# Altium footprint library PcbLib1.PcbLib: 21 footprints (part 1 of 2)
Each footprint in its own frame and in the unit in brackets; x right, y up, seen from the top. Pads: shape width x height; smd on the part's side, far side on the other; paste and mask are expansions set on the pad; w line width, h text height; cw(c..) or ccw(c..) is an arc to the next point about the centre after c.
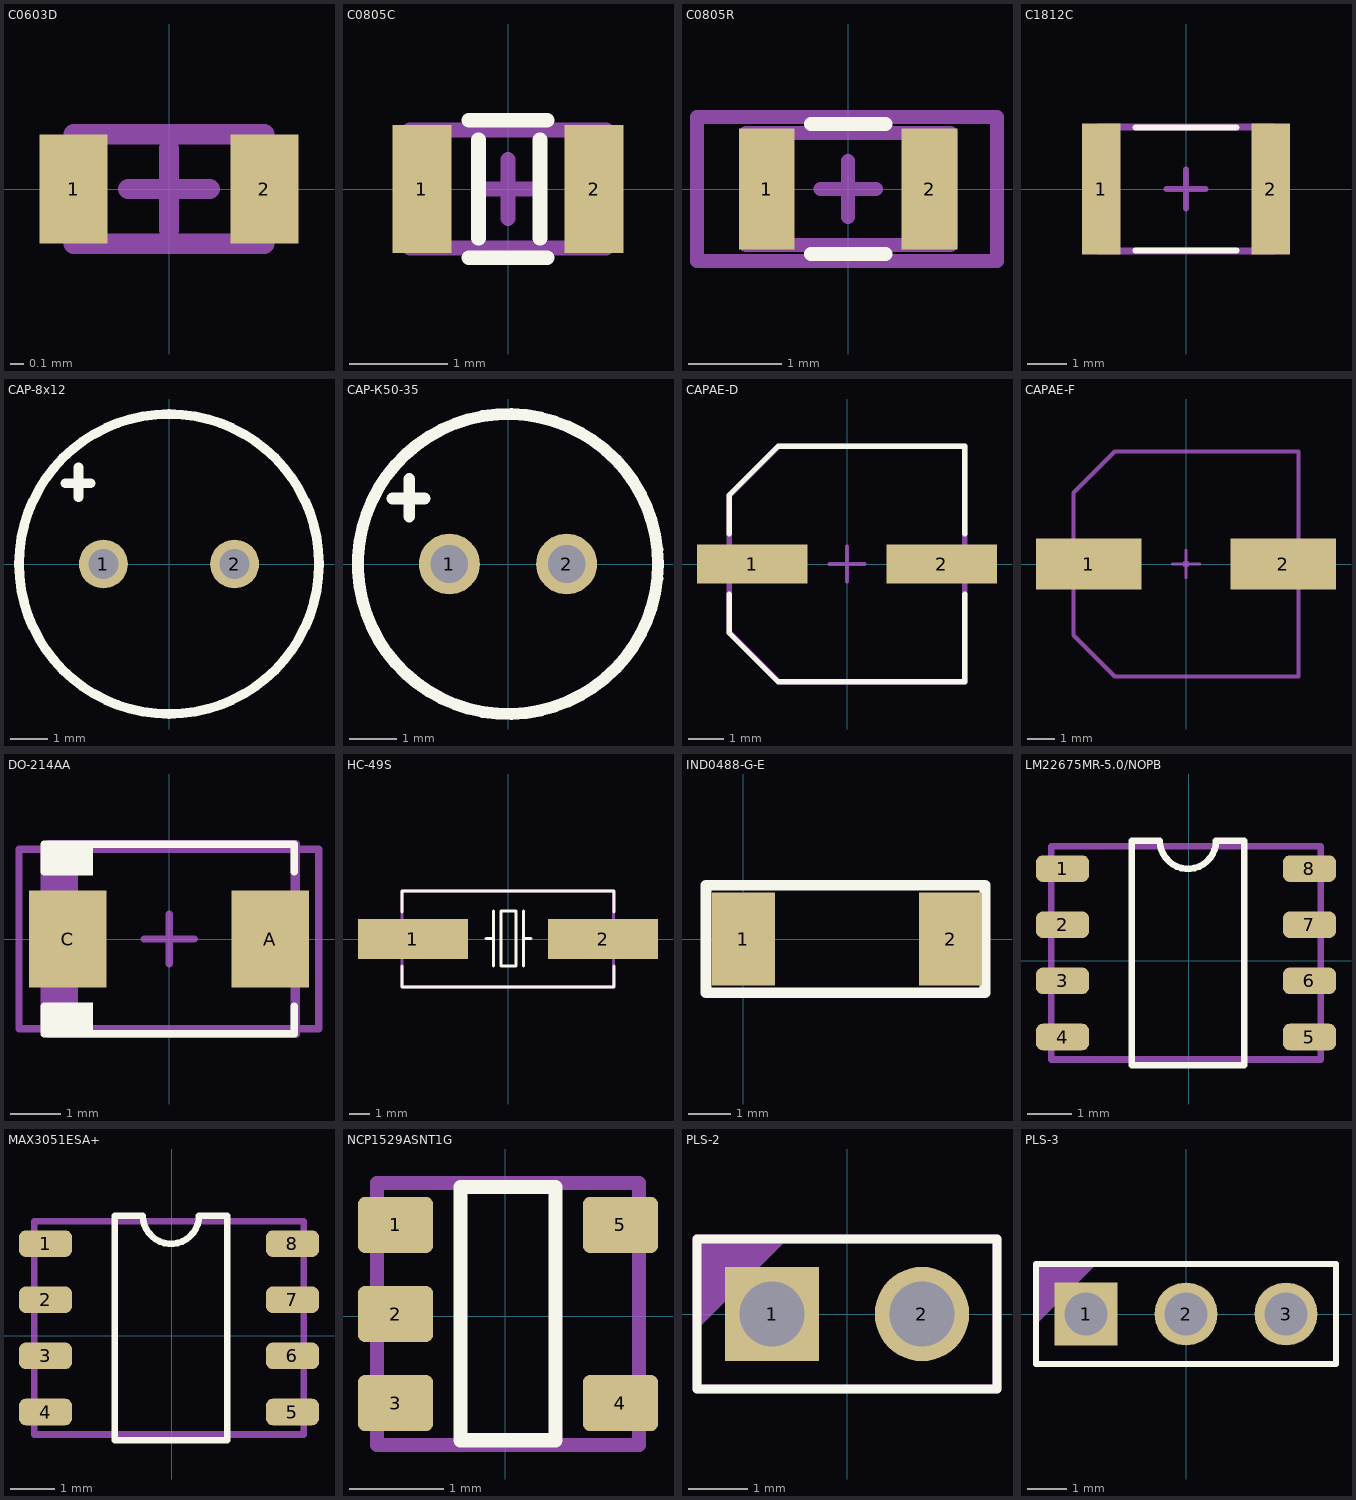
[diagram p0: the footprints below, top view; thin cyan lines are the x and y axes]

## C0603D [mm]
height 0.45
pads (2):
  rect 0.5x0.8 smd: 1(-0.7,0) 2(0.7,0)
Top Overlay:
  text "." at 1.2,0.8 h0.1
Top Courtyard:
  lines w0.15: -0.3,0 0.3,0 ; 0,-0.3 0,0.3 ; -0.7,-0.4 -0.7,0.4 0.7,0.4 0.7,-0.4 -0.7,-0.4
3D body: height 0.45, standoff 0, extent -0.5,-0.41 0.5,0.41
3D body: height 0.45, standoff 0, extent 0.5,-0.41 0.7,0.41
3D body: height 0.45, standoff 0, extent -0.7,-0.41 -0.5,0.41

## C0805C [mm]
height 1
pads (2):
  rect 0.6x1.3 smd: 1(-0.875,0) 2(0.875,0)
Top Overlay:
  lines w0.15: -0.4,-0.7 0.4,-0.7 ; -0.4,0.7 0.4,0.7 ; -0.3,-0.5 -0.3,0.5 ; 0.325,-0.5 0.325,0.5
Top Courtyard:
  lines w0.15: -0.3,0 0.3,0 ; 0,-0.3 0,0.3 ; -1,-0.6 -1,0.6 1,0.6 1,-0.6 -1,-0.6
3D body: height 0.8, standoff 0, extent 0.4,-0.6 1,0.6
3D body: height 0.8, standoff 0, extent -0.4,-0.6 0.4,0.6
3D body: height 0.8, standoff 0, extent -1,-0.6 -0.4,0.6

## C0805R [mm]
height 1
pads (2):
  rect 0.6x1.3 smd: 1(-0.875,0) 2(0.875,0)
Top Overlay:
  lines w0.15: -0.4,-0.7 0.4,-0.7 ; -0.4,0.7 0.4,0.7
Top Courtyard:
  lines w0.15: -0.3,0 0.3,0 ; 0,-0.3 0,0.3 ; -1.1,-0.6 1.1,-0.6 1.1,0.6 -1.1,0.6 -1.1,-0.6
Mechanical 29:
  lines w0.15: -1.625,-0.775 -1.625,0.775 1.6,0.775 1.6,-0.775 -1.625,-0.775
  text ".Designator" at -1.651,-0.381 h1
3D body: height 0.5, standoff 0, extent 0.4,-0.6 1,0.6
3D body: height 0.5, standoff 0, extent -0.4,-0.6 0.4,0.6
3D body: height 0.5, standoff 0, extent -1,-0.6 -0.4,0.6

## C1812C [mm]
height 1
pads (2):
  rect 1x3.35 smd: 1(-2.175,0) 2(2.175,0)
Top Overlay:
  lines w0.15: -1.3,-1.575 1.3,-1.575 ; -1.3,1.575 1.3,1.575
Top Courtyard:
  lines w0.15: -0.5,0 0.5,0 ; 0,-0.5 0,0.5 ; -2.3,-1.575 2.3,-1.575 2.3,1.575 -2.3,1.575 -2.3,-1.575
Mechanical 29:
  lines w0.15: -2.25,-1.6 2.25,-1.6 2.25,1.6 -2.25,1.6 -2.25,-1.6
  text ".Designator" at -2,-0.4 h1
3D body "C1812C.step": height 1, standoff 0, extent -2.25,-1.6 2.25,1.6

## CAP-8x12 [mm]
pads (2):
  round 1.3 hole 0.8: 1(-1.75,0) 2(1.75,0)
Top Overlay:
  circle w0.254: c0,0 r4
  lines w0.254: -2.769,2.159 -2.085,2.159 ; -2.413,1.778 -2.413,2.576

## CAP-К50-35 [mm]
pads (2):
  round 1.3 hole 0.8: 1(-1.25,0) 2(1.25,0)
Top Overlay:
  circle w0.254: c0,0 r3.2
  lines w0.254: -2.462,1.397 -1.778,1.397 ; -2.106,1.016 -2.106,1.814

## CAPAE-D [mm] "Aluminum Electrolytic Capacitor, Body 6,60x6,60x5,80mm, IPC High Density"
height 5.8
pads (2):
  rect 3.1x1.1 smd: 1(-2.65,0) 2(2.65,0)
Top Overlay:
  lines w0.15: -3.3,-0.85 -3.3,-1.925 -1.925,-3.3 3.3,-3.3 3.3,-0.85 ; -3.3,0.85 -3.3,1.925 -1.925,3.3 3.3,3.3 3.3,0.85
Top Courtyard:
  lines w0.1: -0.5,0 0.5,0 ; 0,-0.5 0,0.5
  lines w0.15: -3.3,-1.9 -1.9,-3.3 3.3,-3.3 3.3,-0.5 3.3,0.5 3.3,3.3 -1.9,3.3 -3.3,1.9 -3.3,0.5 -3.3,-0.5 -3.3,-1.9
3D body "CAPAE-D.step": height 5.8, standoff -0.5, extent -3.9,-3.3 3.9,3.3

## CAPAE-F [mm] "Aluminum Electrolytic Capacitor, Body 8,30x8,30x10,20mm, IPC High Density"
height 10.2
pads (2):
  rect 3.85x1.85 smd: 1(-3.55,0) 2(3.55,0)
Top Courtyard:
  lines w0.05: -0.075,-0.075 -0.075,0.075 0.075,0.075 0.075,-0.075 -0.075,-0.075
  lines w0.1: -0.5,0 0.5,0 ; 0,-0.5 0,0.5
  lines w0.15: -4.1,-2.6 -2.6,-4.1 4.1,-4.1 4.1,-0.9 4.1,0.9 4.1,4.1 -2.6,4.1 -4.1,2.6 -4.1,0.9 -4.1,-0.9 -4.1,-2.6
3D body "CAPAE10083X102L.step": height 10.2, standoff 0, extent -5,-4.15 5,4.15

## DO-214AA [mm] "Molded Diode, 2-Leads, Body 5,00x3,70mm, IPC High Density"
height 2.1
pads (2):
  rect 1.55x1.95 smd: A(2.025,0) C(-2.025,0)
Top Overlay:
  rectangle: -2.5,-1.9 -1.524,-1.27
  rectangle: -2.5,1.27 -1.524,1.9
  lines w0.15: -2.5,-1.35 -2.5,-1.9 2.5,-1.9 2.5,-1.35 ; -2.5,1.35 -2.5,1.9 2.5,1.9 2.5,1.35
  text "." at -3.1,1.55 h0.1
Top Courtyard:
  lines w0.15: -0.5,0 0.5,0 ; 0,-0.5 0,0.5 ; -3.004,-1.8 2.991,-1.8 2.991,1.8 -3.004,1.8 -3.004,-1.8
Mechanical 13:
  rectangle: -2.5,-1.85 -1.827,1.85
  lines w0.15: -2.5,-1.85 2.5,-1.85 2.5,1.85 -2.5,1.85 -2.5,-1.85
Mechanical 29:
  lines w0.15: -1.778,-1.905 -1.905,-1.905 -1.905,1.905 -1.778,1.905 ; -2.413,-1.905 2.54,-1.905 2.54,1.905 -2.413,1.905 -2.413,-1.905
3D body "DO-214AA.step": height 2.3, standoff 0, extent -2.97,-1.8 2.97,1.8

## HC-49S [mm]
pads (2):
  rect 5.5x2 smd: 1(-4.75,0) 2(4.75,0)
Top Overlay:
  lines w0.15: -5.3,-1.35 -5.3,-2.4 5.3,-2.4 5.3,-1.35 ; -5.3,1.35 -5.3,2.4 5.3,2.4 5.3,1.35 ; -1.1,0.025 -0.725,0.025 ; -0.725,-1.35 -0.725,0.025 ; -0.725,1.4 -0.725,0.025 ; 0.775,-1.35 0.775,0.025 ; 0.775,1.4 0.775,0.025 ; 1.15,0.025 0.775,0.025 ; -0.35,-1.35 -0.35,0.025 -0.35,1.4 0.025,1.4 0.4,1.4 0.4,0.025 0.4,-1.35 0.025,-1.35 -0.35,-1.35
Mechanical 29:
  lines w0.15: -5.3,-2.4 5.275,-2.4 5.275,2.4 -5.3,2.4 -5.3,-2.4
  text ".Designator" at -3.4,-0.3 h1
3D body "HC-49S.STEP": height 4.35, standoff 0, extent -6.175,-2.35 6.125,2.35

## IND0488-G-E [mm]
height 1
pads (2):
  rect 1.5x2.2 smd: 1(0,0) 2(4.9,0)
Top Overlay:
  lines w0.254: -0.889,-1.27 5.715,-1.27 5.715,1.27 -0.889,1.27 -0.889,-1.27

## LM22675MR-5.0/NOPB [mm]
pads (8):
  rrect50% 1.2x0.6 smd: 1(-2.858,2.086) 2(-2.858,0.816) 3(-2.858,-0.454) 4(-2.858,-1.724) 5(2.73,-1.724) 6(2.73,-0.454) 7(2.73,0.816) 8(2.73,2.086)
Top Overlay:
  lines w0.15: -1.29,-2.364 -1.29,2.716 -0.655,2.716 ccw(c-0.02,2.716) 0.615,2.716 1.25,2.716 1.25,-2.364 -1.29,-2.364
  text "." at -2.764,2.981 h0.1
Top Courtyard:
  lines w0.15: -3.112,-2.232 -3.112,2.594 2.984,2.594 2.984,-2.232 -3.112,-2.232
3D body "User Library-so8-4.STEP": height 1.76, standoff 0, extent -3.132,-2.264 3.004,2.626

## MAX3051ESA+ [mm]
pads (8):
  rrect50% 1.2x0.6 smd: 1(-2.858,2.086) 2(-2.858,0.816) 3(-2.858,-0.454) 4(-2.858,-1.724) 5(2.73,-1.724) 6(2.73,-0.454) 7(2.73,0.816) 8(2.73,2.086)
Top Overlay:
  lines w0.15: -1.29,-2.364 -1.29,2.716 -0.655,2.716 ccw(c-0.02,2.716) 0.615,2.716 1.25,2.716 1.25,-2.364 -1.29,-2.364
  text "." at -2.764,2.981 h0.1
Top Courtyard:
  lines w0.15: -3.112,-2.232 -3.112,2.594 2.984,2.594 2.984,-2.232 -3.112,-2.232
3D body "User Library-so8-4.STEP": height 1.76, standoff 0, extent -3.132,-2.264 3.004,2.626

## NCP1529ASNT1G [mm]
pads (5):
  rrect25% 0.8x0.6 smd: 1(-1.168,0.972) 2(-1.168,0.022) 3(-1.168,-0.928) 4(1.232,-0.928) 5(1.232,0.972)
Top Overlay:
  lines w0.15: -0.476,-1.325 -0.476,1.375 0.54,1.375 0.54,-1.325 -0.476,-1.325
  text "." at -2.243,0.972 h0.1
Top Courtyard:
  lines w0.15: -1.365,-1.375 -1.365,1.419 1.429,1.419 1.429,-1.375 -1.365,-1.375
3D body "SOT23-5.STEP": height 1.44, standoff -0.01, extent -1.368,-1.428 1.432,1.472

## PLS-2 [mm]
pads (2):
  rect 1.6x1.6 hole 1.1: 1(-1.27,0)
  round 1.6 hole 1.1: 2(1.27,0)
Top Overlay:
  lines w0.15: -2.54,-1.27 2.54,-1.27 2.54,1.27 -2.54,1.27 -2.54,-1.27
Mechanical 29:
  region: -2.54,1.27 -1.016,1.27 -2.54,-0.254
  lines w0.15: -2.54,-1.27 -2.54,1.27 2.54,1.27 2.54,-1.27 -2.54,-1.27
  text ".Designator" at -1.5,-0.8 h1
3D body "PLS-1.STEP": height 8.5, standoff -3, extent 0,-1.27 2.54,1.27
3D body "PLS-1.STEP": height 8.5, standoff -3, extent -2.54,-1.27 0,1.27

## PLS-3 [mm]
pads (3):
  rect 1.6x1.6 hole 1.1: 1(-2.54,0)
  round 1.6 hole 1.1: 2(0,0) 3(2.54,0)
Top Overlay:
  lines w0.15: -3.81,-1.27 -3.81,1.27 3.81,1.27 3.81,-1.27 -3.81,-1.27
Mechanical 29:
  region: -3.81,1.27 -2.286,1.27 -3.81,-0.254
  lines w0.15: -3.81,-1.27 3.81,-1.27 3.81,1.27 -3.81,1.27 -3.81,-1.27
  text ".Designator" at -3,-0.3 h1
3D body "PLS-1.STEP": height 8.5, standoff -3, extent -3.81,-1.27 -1.27,1.27
3D body "PLS-1.STEP": height 8.5, standoff -3, extent -1.27,-1.27 1.27,1.27
3D body "PLS-1.STEP": height 8.5, standoff -3, extent 1.27,-1.27 3.81,1.27